# EAGLE library part ILD620 (library EVSE)
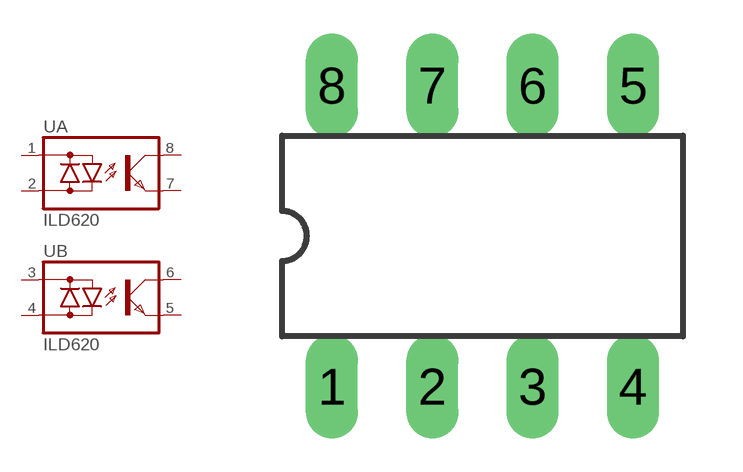
[diagram p2: symbol with the pads of DIL8; footprint DIL8]

Designator prefix -; gates A=OK-LD B=OK-LD

## ILD620GB  [DIL8]
1  A:AC1  pas
2  A:AC2  pas
3  B:AC1  pas
4  B:AC2  pas
5  B:E  pas
6  B:C  pas
7  A:E  pas
8  A:C  pas

## Footprint DIL8 (pad centres in mm)
Dual In Line package type P
drill 0.813 long: 1 -3.81,-3.81; 2 -1.27,-3.81; 3 1.27,-3.81; 4 3.81,-3.81; 5 3.81,3.81; 6 1.27,3.81; 7 -1.27,3.81; 8 -3.81,3.81